# EAGLE library part B10B-PH (library con-jst-ph)
JST PH series header 2.00mm pitch disconnectable crimp style connectors, vertical (side entry type), 10 pins
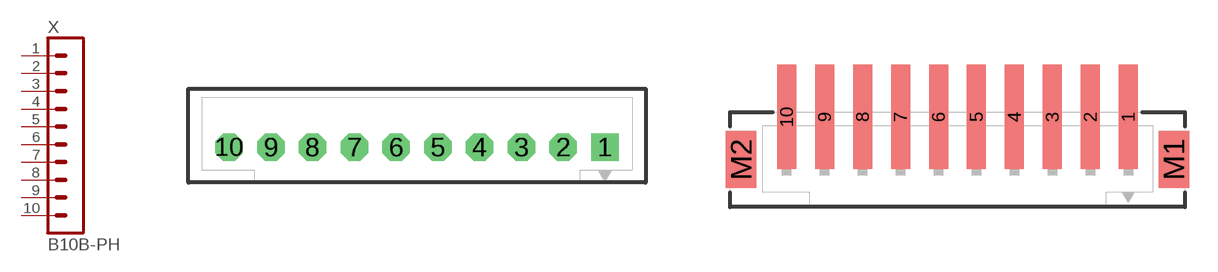
[diagram p4: symbol with the pads of B10B-PH-KL-S; footprints B10B-PH-KL-S, B10B-PH-SM4-TB]

Designator prefix X

## B10B-PH-KL-S  [B10B-PH-KL-S]
1  1  pas
2  2  pas
3  3  pas
4  4  pas
5  5  pas
6  6  pas
7  7  pas
8  8  pas
9  9  pas
10  10  pas

## B10B-PH-SM4-TB  [B10B-PH-SM4-TB]
Pads as for B10B-PH-KL-S

## Footprint B10B-PH-KL-S (pad centres in mm)
JST PH series header 2.00mm pitch disconnectable crimp style connectors, through-hole vertical (top entry type), 10 pins
drill 0.7 pad 1.321 square: 1 9,0
drill 0.7 pad 1.321 octagon: 2 7,0; 3 5,0; 4 3,0; 5 1,0; 6 -1,0; 7 -3,0; 8 -5,0; 9 -7,0; 10 -9,0

## Footprint B10B-PH-SM4-TB (pad centres in mm)
JST PH series header 2.00mm pitch disconnectable crimp style connectors, SMT vertical (top entry type), 10 pins
smd 1 x 5.5: 1 9,0; 2 7,0; 3 5,0; 4 3,0; 5 1,0; 6 -1,0; 7 -3,0; 8 -5,0; 9 -7,0; 10 -9,0
smd 1.6 x 3: M1 11.4,-2.25; M2 -11.4,-2.25